# Altium schematic symbol library L78M05ABDT-TR.Schlib: 1 symbol
Pins are listed as number, name and electrical type; pins without a type are passive.

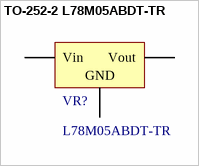
[diagram p0: symbol TO-252-2 L78M05ABDT-TR]

## TO-252-2 L78M05ABDT-TR
designator VR?, comment L78M05ABDT-TR
低压差线性稳压(LDO)
footprint TO-252-2-180 (180度编带包装)
pins: 1 Vin, 2 GND, 3 Vout